# Altium schematic symbol library Term,Header,2x2 Pin,5.7mm,Thru.Schlib: 1 symbol
Pins are listed as number, name and electrical type; pins without a type are passive.

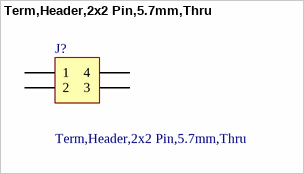
[diagram p0: symbol Term,Header,2x2 Pin,5.7mm,Thru]

## Term,Header,2x2 Pin,5.7mm,Thru
designator J?
Connector Header Through Hole 4 position 0.224" (5.70mm)
pins: 1, 2, 3, 4